# Altium integrated library Dallas Logic Delay Line.IntLib: 454 symbols (part 1 of 7)
Pins are listed as number, name and electrical type; pins without a type are passive.

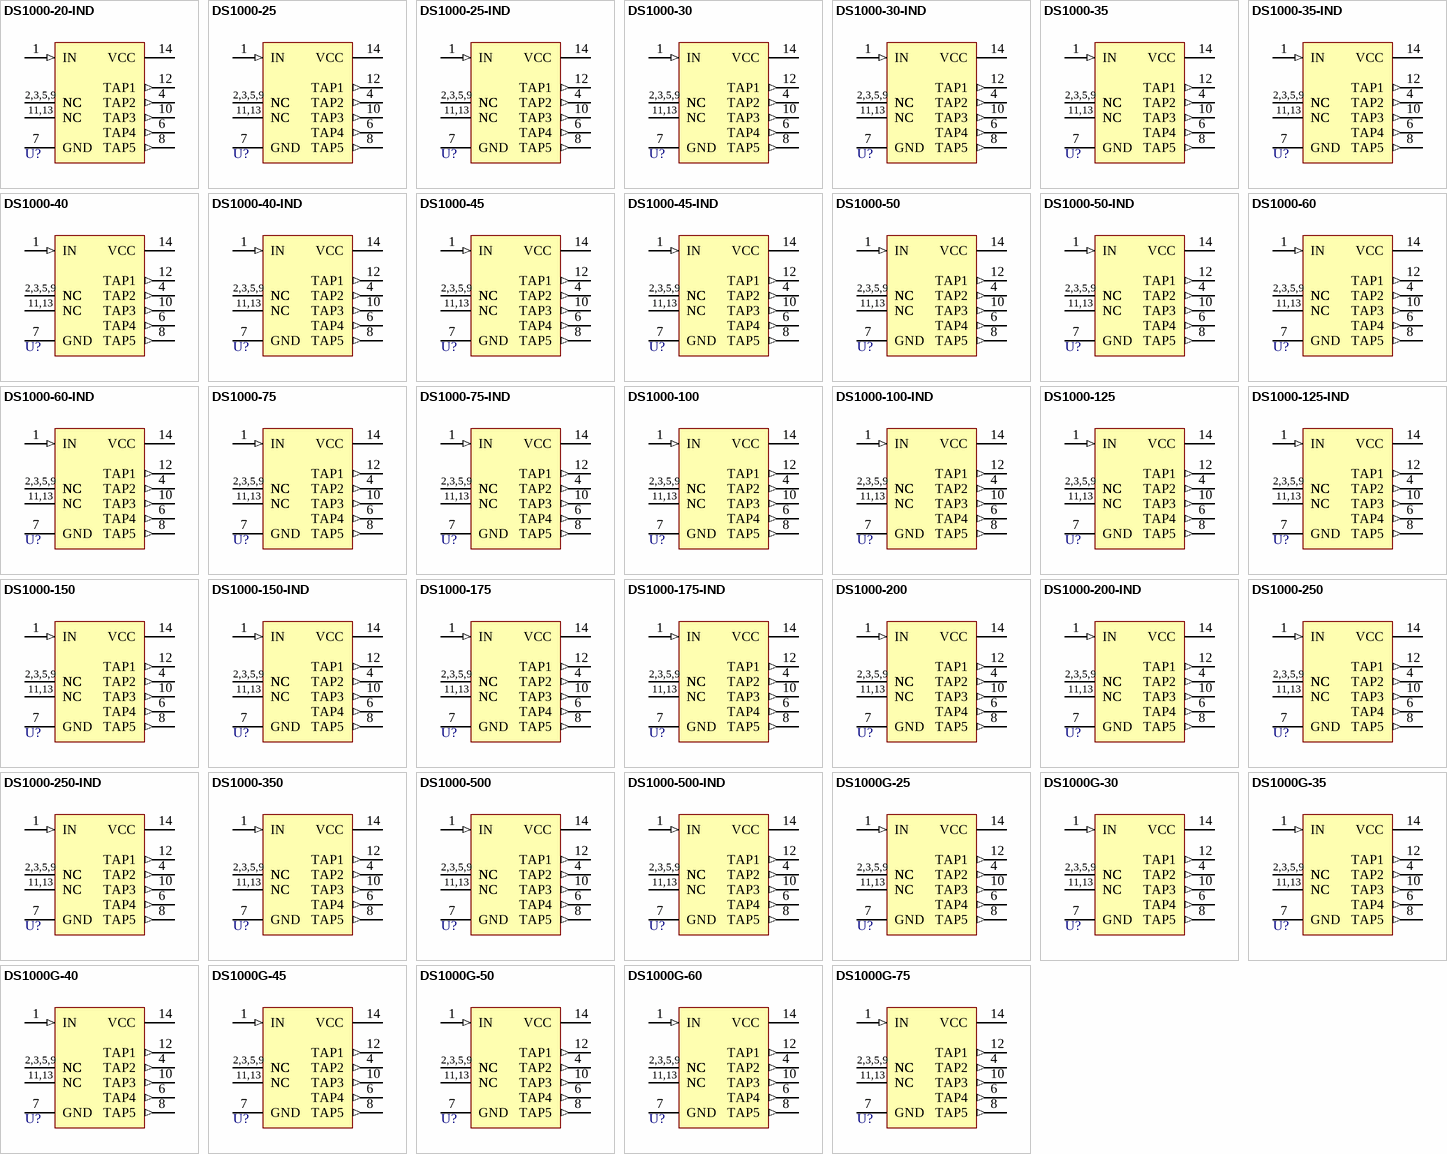
[diagram p0: symbols DS1000-20-IND to DS1000G-75]

## DS1000-20-IND
designator U?
5-Tap Silicon Delay Line; PackageDocument: 1999; Note: Pin numbers 2, 3, 5, 9, 11 and 13 are Not Connected (NC); ComponentAvailability: Obsolete; Published: 13-Oct-2000; LatestRevisionDate: 06-Jun-2005; LatestRevisionNote: Stylized 3D Model Added.; DatasheetDocument: 17-Feb-1998; PackageReference: DIP14; Publisher: Altium Limited; ComponentLink1Description: Manufacturer Link; ComponentLink1URL: http://www.maxim-ic.com/
footprint DIP14 (DIP; 14 Leads; Row Spacing 7.62 mm; Pitch 2.54 mm)
3D model DIP14 (DIP; 14 Leads; Row Spacing 7.62 mm; Pitch 2.54 mm)
pins: 1 IN (in), 2 NC, 3 NC, 4 TAP2 (out), 5 NC, 6 TAP4 (out), 7 GND (power), 8 TAP5 (out), 9 NC, 10 TAP3 (out), 11 NC, 12 TAP1 (out), 13 NC, 14 VCC (power)
text: 2,3,5,9; 11,13

## DS1000-25
designator U?
5-Tap Silicon Delay Line; PackageDocument: 1999; Note: Pin numbers 2, 3, 5, 9, 11 and 13 are Not Connected (NC); ComponentAvailability: Obsolete; Published: 13-Oct-2000; LatestRevisionDate: 06-Jun-2005; LatestRevisionNote: Stylized 3D Model Added.; DatasheetDocument: 17-Feb-1998; PackageReference: DIP14; Publisher: Altium Limited; ComponentLink1Description: Manufacturer Link; ComponentLink1URL: http://www.maxim-ic.com/
footprint DIP14 (DIP; 14 Leads; Row Spacing 7.62 mm; Pitch 2.54 mm)
3D model DIP14 (DIP; 14 Leads; Row Spacing 7.62 mm; Pitch 2.54 mm)
pins: 1 IN (in), 2 NC, 3 NC, 4 TAP2 (out), 5 NC, 6 TAP4 (out), 7 GND (power), 8 TAP5 (out), 9 NC, 10 TAP3 (out), 11 NC, 12 TAP1 (out), 13 NC, 14 VCC (power)
text: 2,3,5,9; 11,13

## DS1000-25-IND
designator U?
5-Tap Silicon Delay Line; PackageDocument: 1999; Note: Pin numbers 2, 3, 5, 9, 11 and 13 are Not Connected (NC); ComponentAvailability: Obsolete; Published: 13-Oct-2000; LatestRevisionDate: 06-Jun-2005; LatestRevisionNote: Stylized 3D Model Added.; DatasheetDocument: 17-Feb-1998; PackageReference: DIP14; Publisher: Altium Limited; ComponentLink1Description: Manufacturer Link; ComponentLink1URL: http://www.maxim-ic.com/
footprint DIP14 (DIP; 14 Leads; Row Spacing 7.62 mm; Pitch 2.54 mm)
3D model DIP14 (DIP; 14 Leads; Row Spacing 7.62 mm; Pitch 2.54 mm)
pins: 1 IN (in), 2 NC, 3 NC, 4 TAP2 (out), 5 NC, 6 TAP4 (out), 7 GND (power), 8 TAP5 (out), 9 NC, 10 TAP3 (out), 11 NC, 12 TAP1 (out), 13 NC, 14 VCC (power)
text: 2,3,5,9; 11,13

## DS1000-30
designator U?
5-Tap Silicon Delay Line; PackageDocument: 1999; Note: Pin numbers 2, 3, 5, 9, 11 and 13 are Not Connected (NC); ComponentAvailability: Obsolete; Published: 13-Oct-2000; LatestRevisionDate: 06-Jun-2005; LatestRevisionNote: Stylized 3D Model Added.; DatasheetDocument: 17-Feb-1998; PackageReference: DIP14; Publisher: Altium Limited; ComponentLink1Description: Manufacturer Link; ComponentLink1URL: http://www.maxim-ic.com/
footprint DIP14 (DIP; 14 Leads; Row Spacing 7.62 mm; Pitch 2.54 mm)
3D model DIP14 (DIP; 14 Leads; Row Spacing 7.62 mm; Pitch 2.54 mm)
pins: 1 IN (in), 2 NC, 3 NC, 4 TAP2 (out), 5 NC, 6 TAP4 (out), 7 GND (power), 8 TAP5 (out), 9 NC, 10 TAP3 (out), 11 NC, 12 TAP1 (out), 13 NC, 14 VCC (power)
text: 2,3,5,9; 11,13

## DS1000-30-IND
designator U?
5-Tap Silicon Delay Line; PackageDocument: 1999; Note: Pin numbers 2, 3, 5, 9, 11 and 13 are Not Connected (NC); ComponentAvailability: Obsolete; Published: 13-Oct-2000; LatestRevisionDate: 06-Jun-2005; LatestRevisionNote: Stylized 3D Model Added.; DatasheetDocument: 17-Feb-1998; PackageReference: DIP14; Publisher: Altium Limited; ComponentLink1Description: Manufacturer Link; ComponentLink1URL: http://www.maxim-ic.com/
footprint DIP14 (DIP; 14 Leads; Row Spacing 7.62 mm; Pitch 2.54 mm)
3D model DIP14 (DIP; 14 Leads; Row Spacing 7.62 mm; Pitch 2.54 mm)
pins: 1 IN (in), 2 NC, 3 NC, 4 TAP2 (out), 5 NC, 6 TAP4 (out), 7 GND (power), 8 TAP5 (out), 9 NC, 10 TAP3 (out), 11 NC, 12 TAP1 (out), 13 NC, 14 VCC (power)
text: 2,3,5,9; 11,13

## DS1000-35
designator U?
5-Tap Silicon Delay Line; PackageDocument: 1999; Note: Pin numbers 2, 3, 5, 9, 11 and 13 are Not Connected (NC); ComponentAvailability: Obsolete; Published: 13-Oct-2000; LatestRevisionDate: 06-Jun-2005; LatestRevisionNote: Stylized 3D Model Added.; DatasheetDocument: 17-Feb-1998; PackageReference: DIP14; Publisher: Altium Limited; ComponentLink1Description: Manufacturer Link; ComponentLink1URL: http://www.maxim-ic.com/
footprint DIP14 (DIP; 14 Leads; Row Spacing 7.62 mm; Pitch 2.54 mm)
3D model DIP14 (DIP; 14 Leads; Row Spacing 7.62 mm; Pitch 2.54 mm)
pins: 1 IN (in), 2 NC, 3 NC, 4 TAP2 (out), 5 NC, 6 TAP4 (out), 7 GND (power), 8 TAP5 (out), 9 NC, 10 TAP3 (out), 11 NC, 12 TAP1 (out), 13 NC, 14 VCC (power)
text: 2,3,5,9; 11,13

## DS1000-35-IND
designator U?
5-Tap Silicon Delay Line; PackageDocument: 1999; Note: Pin numbers 2, 3, 5, 9, 11 and 13 are Not Connected (NC); ComponentAvailability: Obsolete; Published: 13-Oct-2000; LatestRevisionDate: 06-Jun-2005; LatestRevisionNote: Stylized 3D Model Added.; DatasheetDocument: 17-Feb-1998; PackageReference: DIP14; Publisher: Altium Limited; ComponentLink1Description: Manufacturer Link; ComponentLink1URL: http://www.maxim-ic.com/
footprint DIP14 (DIP; 14 Leads; Row Spacing 7.62 mm; Pitch 2.54 mm)
3D model DIP14 (DIP; 14 Leads; Row Spacing 7.62 mm; Pitch 2.54 mm)
pins: 1 IN (in), 2 NC, 3 NC, 4 TAP2 (out), 5 NC, 6 TAP4 (out), 7 GND (power), 8 TAP5 (out), 9 NC, 10 TAP3 (out), 11 NC, 12 TAP1 (out), 13 NC, 14 VCC (power)
text: 2,3,5,9; 11,13

## DS1000-40
designator U?
5-Tap Silicon Delay Line; PackageDocument: 1999; Note: Pin numbers 2, 3, 5, 9, 11 and 13 are Not Connected (NC); ComponentAvailability: Obsolete; Published: 13-Oct-2000; LatestRevisionDate: 06-Jun-2005; LatestRevisionNote: Stylized 3D Model Added.; DatasheetDocument: 17-Feb-1998; PackageReference: DIP14; Publisher: Altium Limited; ComponentLink1Description: Manufacturer Link; ComponentLink1URL: http://www.maxim-ic.com/
footprint DIP14 (DIP; 14 Leads; Row Spacing 7.62 mm; Pitch 2.54 mm)
3D model DIP14 (DIP; 14 Leads; Row Spacing 7.62 mm; Pitch 2.54 mm)
pins: 1 IN (in), 2 NC, 3 NC, 4 TAP2 (out), 5 NC, 6 TAP4 (out), 7 GND (power), 8 TAP5 (out), 9 NC, 10 TAP3 (out), 11 NC, 12 TAP1 (out), 13 NC, 14 VCC (power)
text: 2,3,5,9; 11,13

## DS1000-40-IND
designator U?
5-Tap Silicon Delay Line; PackageDocument: 1999; Note: Pin numbers 2, 3, 5, 9, 11 and 13 are Not Connected (NC); ComponentAvailability: Obsolete; Published: 13-Oct-2000; LatestRevisionDate: 06-Jun-2005; LatestRevisionNote: Stylized 3D Model Added.; DatasheetDocument: 17-Feb-1998; PackageReference: DIP14; Publisher: Altium Limited; ComponentLink1Description: Manufacturer Link; ComponentLink1URL: http://www.maxim-ic.com/
footprint DIP14 (DIP; 14 Leads; Row Spacing 7.62 mm; Pitch 2.54 mm)
3D model DIP14 (DIP; 14 Leads; Row Spacing 7.62 mm; Pitch 2.54 mm)
pins: 1 IN (in), 2 NC, 3 NC, 4 TAP2 (out), 5 NC, 6 TAP4 (out), 7 GND (power), 8 TAP5 (out), 9 NC, 10 TAP3 (out), 11 NC, 12 TAP1 (out), 13 NC, 14 VCC (power)
text: 2,3,5,9; 11,13

## DS1000-45
designator U?
5-Tap Silicon Delay Line; PackageDocument: 1999; Note: Pin numbers 2, 3, 5, 9, 11 and 13 are Not Connected (NC); ComponentAvailability: Obsolete; Published: 13-Oct-2000; LatestRevisionDate: 06-Jun-2005; LatestRevisionNote: Stylized 3D Model Added.; DatasheetDocument: 17-Feb-1998; PackageReference: DIP14; Publisher: Altium Limited; ComponentLink1Description: Manufacturer Link; ComponentLink1URL: http://www.maxim-ic.com/
footprint DIP14 (DIP; 14 Leads; Row Spacing 7.62 mm; Pitch 2.54 mm)
3D model DIP14 (DIP; 14 Leads; Row Spacing 7.62 mm; Pitch 2.54 mm)
pins: 1 IN (in), 2 NC, 3 NC, 4 TAP2 (out), 5 NC, 6 TAP4 (out), 7 GND (power), 8 TAP5 (out), 9 NC, 10 TAP3 (out), 11 NC, 12 TAP1 (out), 13 NC, 14 VCC (power)
text: 2,3,5,9; 11,13

## DS1000-45-IND
designator U?
5-Tap Silicon Delay Line; PackageDocument: 1999; Note: Pin numbers 2, 3, 5, 9, 11 and 13 are Not Connected (NC); ComponentAvailability: Obsolete; Published: 13-Oct-2000; LatestRevisionDate: 06-Jun-2005; LatestRevisionNote: Stylized 3D Model Added.; DatasheetDocument: 17-Feb-1998; PackageReference: DIP14; Publisher: Altium Limited; ComponentLink1Description: Manufacturer Link; ComponentLink1URL: http://www.maxim-ic.com/
footprint DIP14 (DIP; 14 Leads; Row Spacing 7.62 mm; Pitch 2.54 mm)
3D model DIP14 (DIP; 14 Leads; Row Spacing 7.62 mm; Pitch 2.54 mm)
pins: 1 IN (in), 2 NC, 3 NC, 4 TAP2 (out), 5 NC, 6 TAP4 (out), 7 GND (power), 8 TAP5 (out), 9 NC, 10 TAP3 (out), 11 NC, 12 TAP1 (out), 13 NC, 14 VCC (power)
text: 2,3,5,9; 11,13

## DS1000-50
designator U?
5-Tap Silicon Delay Line; PackageDocument: 1999; Note: Pin numbers 2, 3, 5, 9, 11 and 13 are Not Connected (NC); ComponentAvailability: Obsolete; Published: 13-Oct-2000; LatestRevisionDate: 06-Jun-2005; LatestRevisionNote: Stylized 3D Model Added.; DatasheetDocument: 17-Feb-1998; PackageReference: DIP14; Publisher: Altium Limited; ComponentLink1Description: Manufacturer Link; ComponentLink1URL: http://www.maxim-ic.com/
footprint DIP14 (DIP; 14 Leads; Row Spacing 7.62 mm; Pitch 2.54 mm)
3D model DIP14 (DIP; 14 Leads; Row Spacing 7.62 mm; Pitch 2.54 mm)
pins: 1 IN (in), 2 NC, 3 NC, 4 TAP2 (out), 5 NC, 6 TAP4 (out), 7 GND (power), 8 TAP5 (out), 9 NC, 10 TAP3 (out), 11 NC, 12 TAP1 (out), 13 NC, 14 VCC (power)
text: 2,3,5,9; 11,13

## DS1000-50-IND
designator U?
5-Tap Silicon Delay Line; PackageDocument: 1999; Note: Pin numbers 2, 3, 5, 9, 11 and 13 are Not Connected (NC); ComponentAvailability: Obsolete; Published: 13-Oct-2000; LatestRevisionDate: 06-Jun-2005; LatestRevisionNote: Stylized 3D Model Added.; DatasheetDocument: 17-Feb-1998; PackageReference: DIP14; Publisher: Altium Limited; ComponentLink1Description: Manufacturer Link; ComponentLink1URL: http://www.maxim-ic.com/
footprint DIP14 (DIP; 14 Leads; Row Spacing 7.62 mm; Pitch 2.54 mm)
3D model DIP14 (DIP; 14 Leads; Row Spacing 7.62 mm; Pitch 2.54 mm)
pins: 1 IN (in), 2 NC, 3 NC, 4 TAP2 (out), 5 NC, 6 TAP4 (out), 7 GND (power), 8 TAP5 (out), 9 NC, 10 TAP3 (out), 11 NC, 12 TAP1 (out), 13 NC, 14 VCC (power)
text: 2,3,5,9; 11,13

## DS1000-60
designator U?
5-Tap Silicon Delay Line; PackageDocument: 1999; Note: Pin numbers 2, 3, 5, 9, 11 and 13 are Not Connected (NC); ComponentAvailability: Obsolete; Published: 13-Oct-2000; LatestRevisionDate: 06-Jun-2005; LatestRevisionNote: Stylized 3D Model Added.; DatasheetDocument: 17-Feb-1998; PackageReference: DIP14; Publisher: Altium Limited; ComponentLink1Description: Manufacturer Link; ComponentLink1URL: http://www.maxim-ic.com/
footprint DIP14 (DIP; 14 Leads; Row Spacing 7.62 mm; Pitch 2.54 mm)
3D model DIP14 (DIP; 14 Leads; Row Spacing 7.62 mm; Pitch 2.54 mm)
pins: 1 IN (in), 2 NC, 3 NC, 4 TAP2 (out), 5 NC, 6 TAP4 (out), 7 GND (power), 8 TAP5 (out), 9 NC, 10 TAP3 (out), 11 NC, 12 TAP1 (out), 13 NC, 14 VCC (power)
text: 2,3,5,9; 11,13

## DS1000-60-IND
designator U?
5-Tap Silicon Delay Line; PackageDocument: 1999; Note: Pin numbers 2, 3, 5, 9, 11 and 13 are Not Connected (NC); ComponentAvailability: Obsolete; Published: 13-Oct-2000; LatestRevisionDate: 06-Jun-2005; LatestRevisionNote: Stylized 3D Model Added.; DatasheetDocument: 17-Feb-1998; PackageReference: DIP14; Publisher: Altium Limited; ComponentLink1Description: Manufacturer Link; ComponentLink1URL: http://www.maxim-ic.com/
footprint DIP14 (DIP; 14 Leads; Row Spacing 7.62 mm; Pitch 2.54 mm)
3D model DIP14 (DIP; 14 Leads; Row Spacing 7.62 mm; Pitch 2.54 mm)
pins: 1 IN (in), 2 NC, 3 NC, 4 TAP2 (out), 5 NC, 6 TAP4 (out), 7 GND (power), 8 TAP5 (out), 9 NC, 10 TAP3 (out), 11 NC, 12 TAP1 (out), 13 NC, 14 VCC (power)
text: 2,3,5,9; 11,13

## DS1000-75
designator U?
5-Tap Silicon Delay Line; PackageDocument: 1999; Note: Pin numbers 2, 3, 5, 9, 11 and 13 are Not Connected (NC); ComponentAvailability: Obsolete; Published: 13-Oct-2000; LatestRevisionDate: 06-Jun-2005; LatestRevisionNote: Stylized 3D Model Added.; DatasheetDocument: 17-Feb-1998; PackageReference: DIP14; Publisher: Altium Limited; ComponentLink1Description: Manufacturer Link; ComponentLink1URL: http://www.maxim-ic.com/
footprint DIP14 (DIP; 14 Leads; Row Spacing 7.62 mm; Pitch 2.54 mm)
3D model DIP14 (DIP; 14 Leads; Row Spacing 7.62 mm; Pitch 2.54 mm)
pins: 1 IN (in), 2 NC, 3 NC, 4 TAP2 (out), 5 NC, 6 TAP4 (out), 7 GND (power), 8 TAP5 (out), 9 NC, 10 TAP3 (out), 11 NC, 12 TAP1 (out), 13 NC, 14 VCC (power)
text: 2,3,5,9; 11,13

## DS1000-75-IND
designator U?
5-Tap Silicon Delay Line; PackageDocument: 1999; Note: Pin numbers 2, 3, 5, 9, 11 and 13 are Not Connected (NC); ComponentAvailability: Obsolete; Published: 13-Oct-2000; LatestRevisionDate: 06-Jun-2005; LatestRevisionNote: Stylized 3D Model Added.; DatasheetDocument: 17-Feb-1998; PackageReference: DIP14; Publisher: Altium Limited; ComponentLink1Description: Manufacturer Link; ComponentLink1URL: http://www.maxim-ic.com/
footprint DIP14 (DIP; 14 Leads; Row Spacing 7.62 mm; Pitch 2.54 mm)
3D model DIP14 (DIP; 14 Leads; Row Spacing 7.62 mm; Pitch 2.54 mm)
pins: 1 IN (in), 2 NC, 3 NC, 4 TAP2 (out), 5 NC, 6 TAP4 (out), 7 GND (power), 8 TAP5 (out), 9 NC, 10 TAP3 (out), 11 NC, 12 TAP1 (out), 13 NC, 14 VCC (power)
text: 2,3,5,9; 11,13

## DS1000-100
designator U?
5-Tap Silicon Delay Line; PackageDocument: 1999; Note: Pin numbers 2, 3, 5, 9, 11 and 13 are Not Connected (NC); ComponentAvailability: Obsolete; Published: 13-Oct-2000; LatestRevisionDate: 06-Jun-2005; LatestRevisionNote: Stylized 3D Model Added.; DatasheetDocument: 17-Feb-1998; PackageReference: DIP14; Publisher: Altium Limited; ComponentLink1Description: Manufacturer Link; ComponentLink1URL: http://www.maxim-ic.com/
footprint DIP14 (DIP; 14 Leads; Row Spacing 7.62 mm; Pitch 2.54 mm)
3D model DIP14 (DIP; 14 Leads; Row Spacing 7.62 mm; Pitch 2.54 mm)
pins: 1 IN (in), 2 NC, 3 NC, 4 TAP2 (out), 5 NC, 6 TAP4 (out), 7 GND (power), 8 TAP5 (out), 9 NC, 10 TAP3 (out), 11 NC, 12 TAP1 (out), 13 NC, 14 VCC (power)
text: 2,3,5,9; 11,13

## DS1000-100-IND
designator U?
5-Tap Silicon Delay Line; PackageDocument: 1999; Note: Pin numbers 2, 3, 5, 9, 11 and 13 are Not Connected (NC); ComponentAvailability: Obsolete; Published: 13-Oct-2000; LatestRevisionDate: 06-Jun-2005; LatestRevisionNote: Stylized 3D Model Added.; DatasheetDocument: 17-Feb-1998; PackageReference: DIP14; Publisher: Altium Limited; ComponentLink1Description: Manufacturer Link; ComponentLink1URL: http://www.maxim-ic.com/
footprint DIP14 (DIP; 14 Leads; Row Spacing 7.62 mm; Pitch 2.54 mm)
3D model DIP14 (DIP; 14 Leads; Row Spacing 7.62 mm; Pitch 2.54 mm)
pins: 1 IN (in), 2 NC, 3 NC, 4 TAP2 (out), 5 NC, 6 TAP4 (out), 7 GND (power), 8 TAP5 (out), 9 NC, 10 TAP3 (out), 11 NC, 12 TAP1 (out), 13 NC, 14 VCC (power)
text: 2,3,5,9; 11,13

## DS1000-125
designator U?
5-Tap Silicon Delay Line; PackageDocument: 1999; Note: Pin numbers 2, 3, 5, 9, 11 and 13 are Not Connected (NC); ComponentAvailability: Obsolete; Published: 13-Oct-2000; LatestRevisionDate: 06-Jun-2005; LatestRevisionNote: Stylized 3D Model Added.; DatasheetDocument: 17-Feb-1998; PackageReference: DIP14; Publisher: Altium Limited; ComponentLink1Description: Manufacturer Link; ComponentLink1URL: http://www.maxim-ic.com/
footprint DIP14 (DIP; 14 Leads; Row Spacing 7.62 mm; Pitch 2.54 mm)
3D model DIP14 (DIP; 14 Leads; Row Spacing 7.62 mm; Pitch 2.54 mm)
pins: 1 IN (in), 2 NC, 3 NC, 4 TAP2 (out), 5 NC, 6 TAP4 (out), 7 GND (power), 8 TAP5 (out), 9 NC, 10 TAP3 (out), 11 NC, 12 TAP1 (out), 13 NC, 14 VCC (power)
text: 2,3,5,9; 11,13

## DS1000-125-IND
designator U?
5-Tap Silicon Delay Line; PackageDocument: 1999; Note: Pin numbers 2, 3, 5, 9, 11 and 13 are Not Connected (NC); ComponentAvailability: Obsolete; Published: 13-Oct-2000; LatestRevisionDate: 06-Jun-2005; LatestRevisionNote: Stylized 3D Model Added.; DatasheetDocument: 17-Feb-1998; PackageReference: DIP14; Publisher: Altium Limited; ComponentLink1Description: Manufacturer Link; ComponentLink1URL: http://www.maxim-ic.com/
footprint DIP14 (DIP; 14 Leads; Row Spacing 7.62 mm; Pitch 2.54 mm)
3D model DIP14 (DIP; 14 Leads; Row Spacing 7.62 mm; Pitch 2.54 mm)
pins: 1 IN (in), 2 NC, 3 NC, 4 TAP2 (out), 5 NC, 6 TAP4 (out), 7 GND (power), 8 TAP5 (out), 9 NC, 10 TAP3 (out), 11 NC, 12 TAP1 (out), 13 NC, 14 VCC (power)
text: 2,3,5,9; 11,13

## DS1000-150
designator U?
5-Tap Silicon Delay Line; PackageDocument: 1999; Note: Pin numbers 2, 3, 5, 9, 11 and 13 are Not Connected (NC); ComponentAvailability: Obsolete; Published: 13-Oct-2000; LatestRevisionDate: 06-Jun-2005; LatestRevisionNote: Stylized 3D Model Added.; DatasheetDocument: 17-Feb-1998; PackageReference: DIP14; Publisher: Altium Limited; ComponentLink1Description: Manufacturer Link; ComponentLink1URL: http://www.maxim-ic.com/
footprint DIP14 (DIP; 14 Leads; Row Spacing 7.62 mm; Pitch 2.54 mm)
3D model DIP14 (DIP; 14 Leads; Row Spacing 7.62 mm; Pitch 2.54 mm)
pins: 1 IN (in), 2 NC, 3 NC, 4 TAP2 (out), 5 NC, 6 TAP4 (out), 7 GND (power), 8 TAP5 (out), 9 NC, 10 TAP3 (out), 11 NC, 12 TAP1 (out), 13 NC, 14 VCC (power)
text: 2,3,5,9; 11,13

## DS1000-150-IND
designator U?
5-Tap Silicon Delay Line; PackageDocument: 1999; Note: Pin numbers 2, 3, 5, 9, 11 and 13 are Not Connected (NC); ComponentAvailability: Obsolete; Published: 13-Oct-2000; LatestRevisionDate: 06-Jun-2005; LatestRevisionNote: Stylized 3D Model Added.; DatasheetDocument: 17-Feb-1998; PackageReference: DIP14; Publisher: Altium Limited; ComponentLink1Description: Manufacturer Link; ComponentLink1URL: http://www.maxim-ic.com/
footprint DIP14 (DIP; 14 Leads; Row Spacing 7.62 mm; Pitch 2.54 mm)
3D model DIP14 (DIP; 14 Leads; Row Spacing 7.62 mm; Pitch 2.54 mm)
pins: 1 IN (in), 2 NC, 3 NC, 4 TAP2 (out), 5 NC, 6 TAP4 (out), 7 GND (power), 8 TAP5 (out), 9 NC, 10 TAP3 (out), 11 NC, 12 TAP1 (out), 13 NC, 14 VCC (power)
text: 2,3,5,9; 11,13

## DS1000-175
designator U?
5-Tap Silicon Delay Line; PackageDocument: 1999; Note: Pin numbers 2, 3, 5, 9, 11 and 13 are Not Connected (NC); ComponentAvailability: Obsolete; Published: 13-Oct-2000; LatestRevisionDate: 06-Jun-2005; LatestRevisionNote: Stylized 3D Model Added.; DatasheetDocument: 17-Feb-1998; PackageReference: DIP14; Publisher: Altium Limited; ComponentLink1Description: Manufacturer Link; ComponentLink1URL: http://www.maxim-ic.com/
footprint DIP14 (DIP; 14 Leads; Row Spacing 7.62 mm; Pitch 2.54 mm)
3D model DIP14 (DIP; 14 Leads; Row Spacing 7.62 mm; Pitch 2.54 mm)
pins: 1 IN (in), 2 NC, 3 NC, 4 TAP2 (out), 5 NC, 6 TAP4 (out), 7 GND (power), 8 TAP5 (out), 9 NC, 10 TAP3 (out), 11 NC, 12 TAP1 (out), 13 NC, 14 VCC (power)
text: 2,3,5,9; 11,13

## DS1000-175-IND
designator U?
5-Tap Silicon Delay Line; PackageDocument: 1999; Note: Pin numbers 2, 3, 5, 9, 11 and 13 are Not Connected (NC); ComponentAvailability: Obsolete; Published: 13-Oct-2000; LatestRevisionDate: 06-Jun-2005; LatestRevisionNote: Stylized 3D Model Added.; DatasheetDocument: 17-Feb-1998; PackageReference: DIP14; Publisher: Altium Limited; ComponentLink1Description: Manufacturer Link; ComponentLink1URL: http://www.maxim-ic.com/
footprint DIP14 (DIP; 14 Leads; Row Spacing 7.62 mm; Pitch 2.54 mm)
3D model DIP14 (DIP; 14 Leads; Row Spacing 7.62 mm; Pitch 2.54 mm)
pins: 1 IN (in), 2 NC, 3 NC, 4 TAP2 (out), 5 NC, 6 TAP4 (out), 7 GND (power), 8 TAP5 (out), 9 NC, 10 TAP3 (out), 11 NC, 12 TAP1 (out), 13 NC, 14 VCC (power)
text: 2,3,5,9; 11,13

## DS1000-200
designator U?
5-Tap Silicon Delay Line; PackageDocument: 1999; Note: Pin numbers 2, 3, 5, 9, 11 and 13 are Not Connected (NC); ComponentAvailability: Obsolete; Published: 13-Oct-2000; LatestRevisionDate: 06-Jun-2005; LatestRevisionNote: Stylized 3D Model Added.; DatasheetDocument: 17-Feb-1998; PackageReference: DIP14; Publisher: Altium Limited; ComponentLink1Description: Manufacturer Link; ComponentLink1URL: http://www.maxim-ic.com/
footprint DIP14 (DIP; 14 Leads; Row Spacing 7.62 mm; Pitch 2.54 mm)
3D model DIP14 (DIP; 14 Leads; Row Spacing 7.62 mm; Pitch 2.54 mm)
pins: 1 IN (in), 2 NC, 3 NC, 4 TAP2 (out), 5 NC, 6 TAP4 (out), 7 GND (power), 8 TAP5 (out), 9 NC, 10 TAP3 (out), 11 NC, 12 TAP1 (out), 13 NC, 14 VCC (power)
text: 2,3,5,9; 11,13

## DS1000-200-IND
designator U?
5-Tap Silicon Delay Line; PackageDocument: 1999; Note: Pin numbers 2, 3, 5, 9, 11 and 13 are Not Connected (NC); ComponentAvailability: Obsolete; Published: 13-Oct-2000; LatestRevisionDate: 06-Jun-2005; LatestRevisionNote: Stylized 3D Model Added.; DatasheetDocument: 17-Feb-1998; PackageReference: DIP14; Publisher: Altium Limited; ComponentLink1Description: Manufacturer Link; ComponentLink1URL: http://www.maxim-ic.com/
footprint DIP14 (DIP; 14 Leads; Row Spacing 7.62 mm; Pitch 2.54 mm)
3D model DIP14 (DIP; 14 Leads; Row Spacing 7.62 mm; Pitch 2.54 mm)
pins: 1 IN (in), 2 NC, 3 NC, 4 TAP2 (out), 5 NC, 6 TAP4 (out), 7 GND (power), 8 TAP5 (out), 9 NC, 10 TAP3 (out), 11 NC, 12 TAP1 (out), 13 NC, 14 VCC (power)
text: 2,3,5,9; 11,13

## DS1000-250
designator U?
5-Tap Silicon Delay Line; PackageDocument: 1999; Note: Pin numbers 2, 3, 5, 9, 11 and 13 are Not Connected (NC); ComponentAvailability: Obsolete; Published: 13-Oct-2000; LatestRevisionDate: 06-Jun-2005; LatestRevisionNote: Stylized 3D Model Added.; DatasheetDocument: 17-Feb-1998; PackageReference: DIP14; Publisher: Altium Limited; ComponentLink1Description: Manufacturer Link; ComponentLink1URL: http://www.maxim-ic.com/
footprint DIP14 (DIP; 14 Leads; Row Spacing 7.62 mm; Pitch 2.54 mm)
3D model DIP14 (DIP; 14 Leads; Row Spacing 7.62 mm; Pitch 2.54 mm)
pins: 1 IN (in), 2 NC, 3 NC, 4 TAP2 (out), 5 NC, 6 TAP4 (out), 7 GND (power), 8 TAP5 (out), 9 NC, 10 TAP3 (out), 11 NC, 12 TAP1 (out), 13 NC, 14 VCC (power)
text: 2,3,5,9; 11,13

## DS1000-250-IND
designator U?
5-Tap Silicon Delay Line; PackageDocument: 1999; Note: Pin numbers 2, 3, 5, 9, 11 and 13 are Not Connected (NC); ComponentAvailability: Obsolete; Published: 13-Oct-2000; LatestRevisionDate: 06-Jun-2005; LatestRevisionNote: Stylized 3D Model Added.; DatasheetDocument: 17-Feb-1998; PackageReference: DIP14; Publisher: Altium Limited; ComponentLink1Description: Manufacturer Link; ComponentLink1URL: http://www.maxim-ic.com/
footprint DIP14 (DIP; 14 Leads; Row Spacing 7.62 mm; Pitch 2.54 mm)
3D model DIP14 (DIP; 14 Leads; Row Spacing 7.62 mm; Pitch 2.54 mm)
pins: 1 IN (in), 2 NC, 3 NC, 4 TAP2 (out), 5 NC, 6 TAP4 (out), 7 GND (power), 8 TAP5 (out), 9 NC, 10 TAP3 (out), 11 NC, 12 TAP1 (out), 13 NC, 14 VCC (power)
text: 2,3,5,9; 11,13

## DS1000-350
designator U?
5-Tap Silicon Delay Line; PackageDocument: 1999; Note: Pin numbers 2, 3, 5, 9, 11 and 13 are Not Connected (NC); ComponentAvailability: Obsolete; Published: 13-Oct-2000; LatestRevisionDate: 06-Jun-2005; LatestRevisionNote: Stylized 3D Model Added.; DatasheetDocument: Mar-1994; PackageReference: DIP14; Publisher: Altium Limited; ComponentLink1Description: Manufacturer Link; ComponentLink1URL: http://www.maxim-ic.com/
footprint DIP14 (DIP; 14 Leads; Row Spacing 7.62 mm; Pitch 2.54 mm)
3D model DIP14 (DIP; 14 Leads; Row Spacing 7.62 mm; Pitch 2.54 mm)
pins: 1 IN (in), 2 NC, 3 NC, 4 TAP2 (out), 5 NC, 6 TAP4 (out), 7 GND (power), 8 TAP5 (out), 9 NC, 10 TAP3 (out), 11 NC, 12 TAP1 (out), 13 NC, 14 VCC (power)
text: 2,3,5,9; 11,13

## DS1000-500
designator U?
5-Tap Silicon Delay Line; PackageDocument: 1999; Note: Pin numbers 2, 3, 5, 9, 11 and 13 are Not Connected (NC); ComponentAvailability: Obsolete; Published: 13-Oct-2000; LatestRevisionDate: 06-Jun-2005; LatestRevisionNote: Stylized 3D Model Added.; DatasheetDocument: 17-Feb-1998; PackageReference: DIP14; Publisher: Altium Limited; ComponentLink1Description: Manufacturer Link; ComponentLink1URL: http://www.maxim-ic.com/
footprint DIP14 (DIP; 14 Leads; Row Spacing 7.62 mm; Pitch 2.54 mm)
3D model DIP14 (DIP; 14 Leads; Row Spacing 7.62 mm; Pitch 2.54 mm)
pins: 1 IN (in), 2 NC, 3 NC, 4 TAP2 (out), 5 NC, 6 TAP4 (out), 7 GND (power), 8 TAP5 (out), 9 NC, 10 TAP3 (out), 11 NC, 12 TAP1 (out), 13 NC, 14 VCC (power)
text: 2,3,5,9; 11,13

## DS1000-500-IND
designator U?
5-Tap Silicon Delay Line; PackageDocument: 1999; Note: Pin numbers 2, 3, 5, 9, 11 and 13 are Not Connected (NC); ComponentAvailability: Obsolete; Published: 13-Oct-2000; LatestRevisionDate: 06-Jun-2005; LatestRevisionNote: Stylized 3D Model Added.; DatasheetDocument: 17-Feb-1998; PackageReference: DIP14; Publisher: Altium Limited; ComponentLink1Description: Manufacturer Link; ComponentLink1URL: http://www.maxim-ic.com/
footprint DIP14 (DIP; 14 Leads; Row Spacing 7.62 mm; Pitch 2.54 mm)
3D model DIP14 (DIP; 14 Leads; Row Spacing 7.62 mm; Pitch 2.54 mm)
pins: 1 IN (in), 2 NC, 3 NC, 4 TAP2 (out), 5 NC, 6 TAP4 (out), 7 GND (power), 8 TAP5 (out), 9 NC, 10 TAP3 (out), 11 NC, 12 TAP1 (out), 13 NC, 14 VCC (power)
text: 2,3,5,9; 11,13

## DS1000G-25
designator U?
5-Tap Silicon Delay Line; Note: Pin numbers 2, 3, 5, 9, 11 and 13 are Not Connected (NC); ComponentAvailability: Obsolete; Published: 13-Oct-2000; LatestRevisionDate: 06-Jun-2005; LatestRevisionNote: Stylized 3D Model Added.; DatasheetDocument: Mar-1994; PackageDocument: Feb-1999; PackageReference: SOG14; Publisher: Altium Limited; ComponentLink1Description: Manufacturer Link; ComponentLink1URL: http://www.maxim-ic.com/
footprint SOG14 (Small Outline; 14 Leads; Body Width 6.4 mm; Pitch 2.54 mm)
3D model SOG14 (Small Outline; 14 Leads; Body Width 6.4 mm; Pitch 2.54 mm)
pins: 1 IN (in), 2 NC, 3 NC, 4 TAP2 (out), 5 NC, 6 TAP4 (out), 7 GND (power), 8 TAP5 (out), 9 NC, 10 TAP3 (out), 11 NC, 12 TAP1 (out), 13 NC, 14 VCC (power)
text: 2,3,5,9; 11,13

## DS1000G-30
designator U?
5-Tap Silicon Delay Line; Note: Pin numbers 2, 3, 5, 9, 11 and 13 are Not Connected (NC); ComponentAvailability: Obsolete; Published: 13-Oct-2000; LatestRevisionDate: 06-Jun-2005; LatestRevisionNote: Stylized 3D Model Added.; DatasheetDocument: Mar-1994; PackageDocument: Feb-1999; PackageReference: SOG14; Publisher: Altium Limited; ComponentLink1Description: Manufacturer Link; ComponentLink1URL: http://www.maxim-ic.com/
footprint SOG14 (Small Outline; 14 Leads; Body Width 6.4 mm; Pitch 2.54 mm)
3D model SOG14 (Small Outline; 14 Leads; Body Width 6.4 mm; Pitch 2.54 mm)
pins: 1 IN (in), 2 NC, 3 NC, 4 TAP2 (out), 5 NC, 6 TAP4 (out), 7 GND (power), 8 TAP5 (out), 9 NC, 10 TAP3 (out), 11 NC, 12 TAP1 (out), 13 NC, 14 VCC (power)
text: 2,3,5,9; 11,13

## DS1000G-35
designator U?
5-Tap Silicon Delay Line; Note: Pin numbers 2, 3, 5, 9, 11 and 13 are Not Connected (NC); ComponentAvailability: Obsolete; Published: 13-Oct-2000; LatestRevisionDate: 06-Jun-2005; LatestRevisionNote: Stylized 3D Model Added.; DatasheetDocument: Mar-1994; PackageDocument: Feb-1999; PackageReference: SOG14; Publisher: Altium Limited; ComponentLink1Description: Manufacturer Link; ComponentLink1URL: http://www.maxim-ic.com/
footprint SOG14 (Small Outline; 14 Leads; Body Width 6.4 mm; Pitch 2.54 mm)
3D model SOG14 (Small Outline; 14 Leads; Body Width 6.4 mm; Pitch 2.54 mm)
pins: 1 IN (in), 2 NC, 3 NC, 4 TAP2 (out), 5 NC, 6 TAP4 (out), 7 GND (power), 8 TAP5 (out), 9 NC, 10 TAP3 (out), 11 NC, 12 TAP1 (out), 13 NC, 14 VCC (power)
text: 2,3,5,9; 11,13

## DS1000G-40
designator U?
5-Tap Silicon Delay Line; Note: Pin numbers 2, 3, 5, 9, 11 and 13 are Not Connected (NC); ComponentAvailability: Obsolete; Published: 13-Oct-2000; LatestRevisionDate: 06-Jun-2005; LatestRevisionNote: Stylized 3D Model Added.; DatasheetDocument: Mar-1994; PackageDocument: Feb-1999; PackageReference: SOG14; Publisher: Altium Limited; ComponentLink1Description: Manufacturer Link; ComponentLink1URL: http://www.maxim-ic.com/
footprint SOG14 (Small Outline; 14 Leads; Body Width 6.4 mm; Pitch 2.54 mm)
3D model SOG14 (Small Outline; 14 Leads; Body Width 6.4 mm; Pitch 2.54 mm)
pins: 1 IN (in), 2 NC, 3 NC, 4 TAP2 (out), 5 NC, 6 TAP4 (out), 7 GND (power), 8 TAP5 (out), 9 NC, 10 TAP3 (out), 11 NC, 12 TAP1 (out), 13 NC, 14 VCC (power)
text: 2,3,5,9; 11,13

## DS1000G-45
designator U?
5-Tap Silicon Delay Line; Note: Pin numbers 2, 3, 5, 9, 11 and 13 are Not Connected (NC); ComponentAvailability: Obsolete; Published: 13-Oct-2000; LatestRevisionDate: 06-Jun-2005; LatestRevisionNote: Stylized 3D Model Added.; DatasheetDocument: Mar-1994; PackageDocument: Feb-1999; PackageReference: SOG14; Publisher: Altium Limited; ComponentLink1Description: Manufacturer Link; ComponentLink1URL: http://www.maxim-ic.com/
footprint SOG14 (Small Outline; 14 Leads; Body Width 6.4 mm; Pitch 2.54 mm)
3D model SOG14 (Small Outline; 14 Leads; Body Width 6.4 mm; Pitch 2.54 mm)
pins: 1 IN (in), 2 NC, 3 NC, 4 TAP2 (out), 5 NC, 6 TAP4 (out), 7 GND (power), 8 TAP5 (out), 9 NC, 10 TAP3 (out), 11 NC, 12 TAP1 (out), 13 NC, 14 VCC (power)
text: 2,3,5,9; 11,13

## DS1000G-50
designator U?
5-Tap Silicon Delay Line; Note: Pin numbers 2, 3, 5, 9, 11 and 13 are Not Connected (NC); ComponentAvailability: Obsolete; Published: 13-Oct-2000; LatestRevisionDate: 06-Jun-2005; LatestRevisionNote: Stylized 3D Model Added.; DatasheetDocument: Mar-1994; PackageDocument: Feb-1999; PackageReference: SOG14; Publisher: Altium Limited; ComponentLink1Description: Manufacturer Link; ComponentLink1URL: http://www.maxim-ic.com/
footprint SOG14 (Small Outline; 14 Leads; Body Width 6.4 mm; Pitch 2.54 mm)
3D model SOG14 (Small Outline; 14 Leads; Body Width 6.4 mm; Pitch 2.54 mm)
pins: 1 IN (in), 2 NC, 3 NC, 4 TAP2 (out), 5 NC, 6 TAP4 (out), 7 GND (power), 8 TAP5 (out), 9 NC, 10 TAP3 (out), 11 NC, 12 TAP1 (out), 13 NC, 14 VCC (power)
text: 2,3,5,9; 11,13

## DS1000G-60
designator U?
5-Tap Silicon Delay Line; Note: Pin numbers 2, 3, 5, 9, 11 and 13 are Not Connected (NC); ComponentAvailability: Obsolete; Published: 13-Oct-2000; LatestRevisionDate: 06-Jun-2005; LatestRevisionNote: Stylized 3D Model Added.; DatasheetDocument: Mar-1994; PackageDocument: Feb-1999; PackageReference: SOG14; Publisher: Altium Limited; ComponentLink1Description: Manufacturer Link; ComponentLink1URL: http://www.maxim-ic.com/
footprint SOG14 (Small Outline; 14 Leads; Body Width 6.4 mm; Pitch 2.54 mm)
3D model SOG14 (Small Outline; 14 Leads; Body Width 6.4 mm; Pitch 2.54 mm)
pins: 1 IN (in), 2 NC, 3 NC, 4 TAP2 (out), 5 NC, 6 TAP4 (out), 7 GND (power), 8 TAP5 (out), 9 NC, 10 TAP3 (out), 11 NC, 12 TAP1 (out), 13 NC, 14 VCC (power)
text: 2,3,5,9; 11,13

## DS1000G-75
designator U?
5-Tap Silicon Delay Line; Note: Pin numbers 2, 3, 5, 9, 11 and 13 are Not Connected (NC); ComponentAvailability: Obsolete; Published: 13-Oct-2000; LatestRevisionDate: 06-Jun-2005; LatestRevisionNote: Stylized 3D Model Added.; DatasheetDocument: Mar-1994; PackageDocument: Feb-1999; PackageReference: SOG14; Publisher: Altium Limited; ComponentLink1Description: Manufacturer Link; ComponentLink1URL: http://www.maxim-ic.com/
footprint SOG14 (Small Outline; 14 Leads; Body Width 6.4 mm; Pitch 2.54 mm)
3D model SOG14 (Small Outline; 14 Leads; Body Width 6.4 mm; Pitch 2.54 mm)
pins: 1 IN (in), 2 NC, 3 NC, 4 TAP2 (out), 5 NC, 6 TAP4 (out), 7 GND (power), 8 TAP5 (out), 9 NC, 10 TAP3 (out), 11 NC, 12 TAP1 (out), 13 NC, 14 VCC (power)
text: 2,3,5,9; 11,13

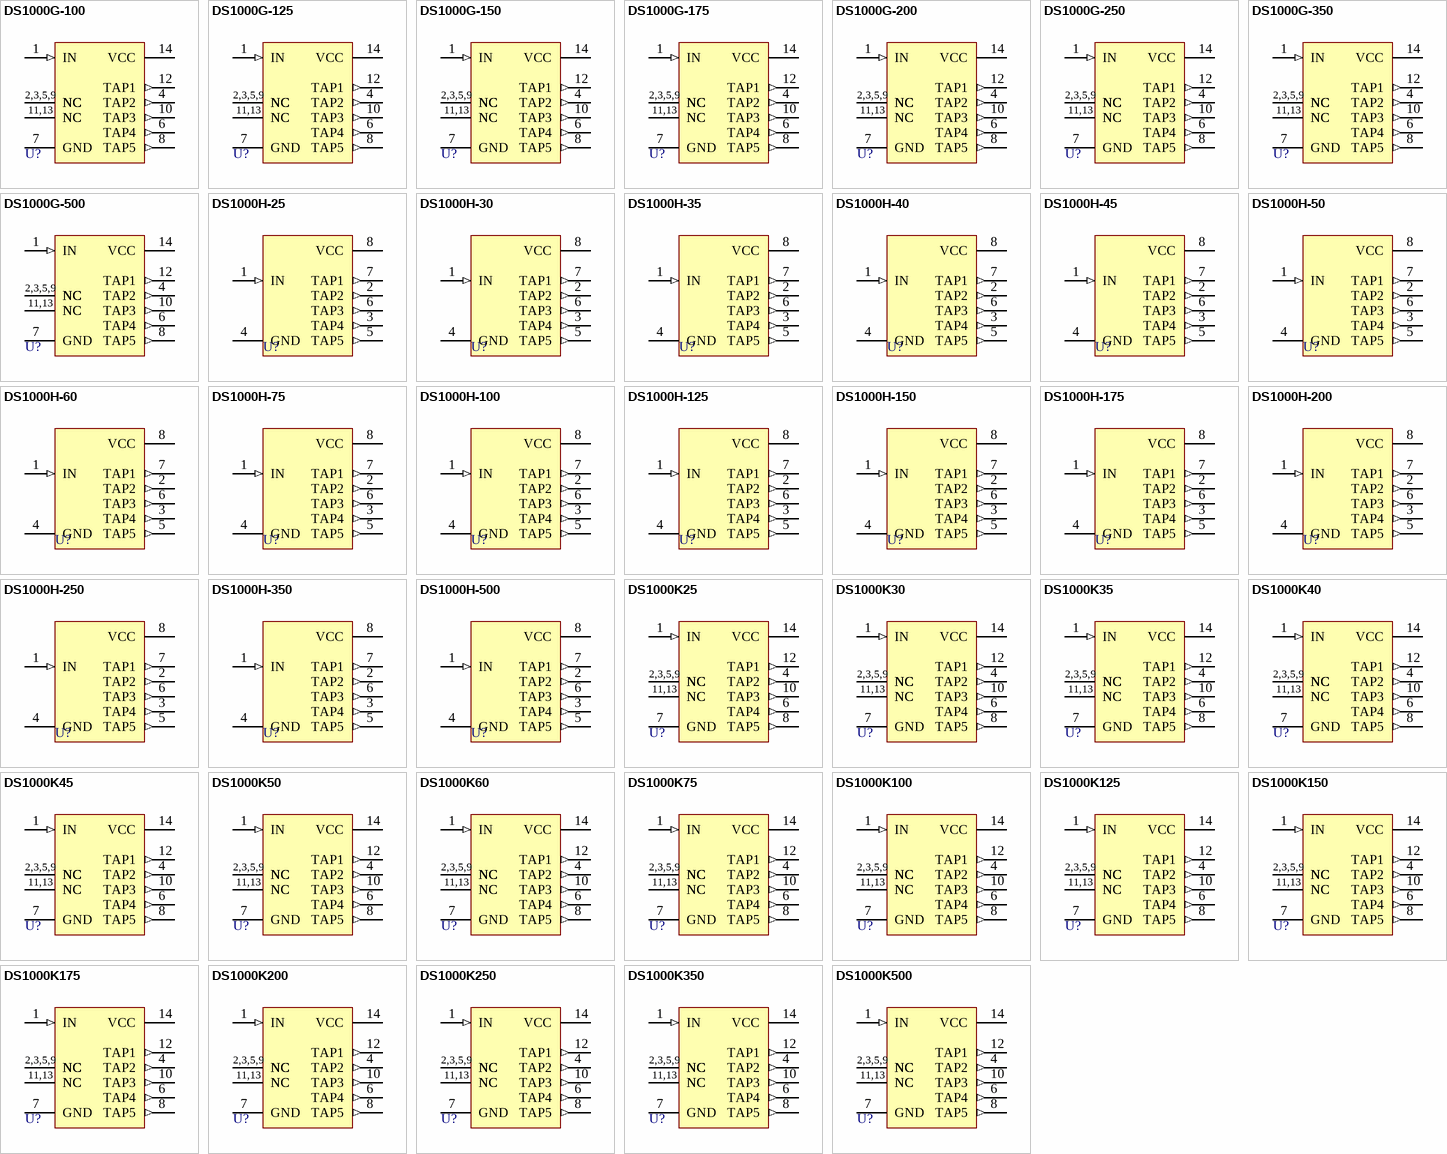
[diagram p1: symbols DS1000G-100 to DS1000K500]

## DS1000G-100
designator U?
5-Tap Silicon Delay Line; Note: Pin numbers 2, 3, 5, 9, 11 and 13 are Not Connected (NC); ComponentAvailability: Obsolete; Published: 13-Oct-2000; LatestRevisionDate: 06-Jun-2005; LatestRevisionNote: Stylized 3D Model Added.; DatasheetDocument: Mar-1994; PackageDocument: Feb-1999; PackageReference: SOG14; Publisher: Altium Limited; ComponentLink1Description: Manufacturer Link; ComponentLink1URL: http://www.maxim-ic.com/
footprint SOG14 (Small Outline; 14 Leads; Body Width 6.4 mm; Pitch 2.54 mm)
3D model SOG14 (Small Outline; 14 Leads; Body Width 6.4 mm; Pitch 2.54 mm)
pins: 1 IN (in), 2 NC, 3 NC, 4 TAP2 (out), 5 NC, 6 TAP4 (out), 7 GND (power), 8 TAP5 (out), 9 NC, 10 TAP3 (out), 11 NC, 12 TAP1 (out), 13 NC, 14 VCC (power)
text: 2,3,5,9; 11,13

## DS1000G-125
designator U?
5-Tap Silicon Delay Line; Note: Pin numbers 2, 3, 5, 9, 11 and 13 are Not Connected (NC); ComponentAvailability: Obsolete; Published: 13-Oct-2000; LatestRevisionDate: 06-Jun-2005; LatestRevisionNote: Stylized 3D Model Added.; DatasheetDocument: Mar-1994; PackageDocument: Feb-1999; PackageReference: SOG14; Publisher: Altium Limited; ComponentLink1Description: Manufacturer Link; ComponentLink1URL: http://www.maxim-ic.com/
footprint SOG14 (Small Outline; 14 Leads; Body Width 6.4 mm; Pitch 2.54 mm)
3D model SOG14 (Small Outline; 14 Leads; Body Width 6.4 mm; Pitch 2.54 mm)
pins: 1 IN (in), 2 NC, 3 NC, 4 TAP2 (out), 5 NC, 6 TAP4 (out), 7 GND (power), 8 TAP5 (out), 9 NC, 10 TAP3 (out), 11 NC, 12 TAP1 (out), 13 NC, 14 VCC (power)
text: 2,3,5,9; 11,13

## DS1000G-150
designator U?
5-Tap Silicon Delay Line; Note: Pin numbers 2, 3, 5, 9, 11 and 13 are Not Connected (NC); ComponentAvailability: Obsolete; Published: 13-Oct-2000; LatestRevisionDate: 06-Jun-2005; LatestRevisionNote: Stylized 3D Model Added.; DatasheetDocument: Mar-1994; PackageDocument: Feb-1999; PackageReference: SOG14; Publisher: Altium Limited; ComponentLink1Description: Manufacturer Link; ComponentLink1URL: http://www.maxim-ic.com/
footprint SOG14 (Small Outline; 14 Leads; Body Width 6.4 mm; Pitch 2.54 mm)
3D model SOG14 (Small Outline; 14 Leads; Body Width 6.4 mm; Pitch 2.54 mm)
pins: 1 IN (in), 2 NC, 3 NC, 4 TAP2 (out), 5 NC, 6 TAP4 (out), 7 GND (power), 8 TAP5 (out), 9 NC, 10 TAP3 (out), 11 NC, 12 TAP1 (out), 13 NC, 14 VCC (power)
text: 2,3,5,9; 11,13

## DS1000G-175
designator U?
5-Tap Silicon Delay Line; Note: Pin numbers 2, 3, 5, 9, 11 and 13 are Not Connected (NC); ComponentAvailability: Obsolete; Published: 13-Oct-2000; LatestRevisionDate: 06-Jun-2005; LatestRevisionNote: Stylized 3D Model Added.; DatasheetDocument: Mar-1994; PackageDocument: Feb-1999; PackageReference: SOG14; Publisher: Altium Limited; ComponentLink1Description: Manufacturer Link; ComponentLink1URL: http://www.maxim-ic.com/
footprint SOG14 (Small Outline; 14 Leads; Body Width 6.4 mm; Pitch 2.54 mm)
3D model SOG14 (Small Outline; 14 Leads; Body Width 6.4 mm; Pitch 2.54 mm)
pins: 1 IN (in), 2 NC, 3 NC, 4 TAP2 (out), 5 NC, 6 TAP4 (out), 7 GND (power), 8 TAP5 (out), 9 NC, 10 TAP3 (out), 11 NC, 12 TAP1 (out), 13 NC, 14 VCC (power)
text: 2,3,5,9; 11,13

## DS1000G-200
designator U?
5-Tap Silicon Delay Line; Note: Pin numbers 2, 3, 5, 9, 11 and 13 are Not Connected (NC); ComponentAvailability: Obsolete; Published: 13-Oct-2000; LatestRevisionDate: 06-Jun-2005; LatestRevisionNote: Stylized 3D Model Added.; DatasheetDocument: Mar-1994; PackageDocument: Feb-1999; PackageReference: SOG14; Publisher: Altium Limited; ComponentLink1Description: Manufacturer Link; ComponentLink1URL: http://www.maxim-ic.com/
footprint SOG14 (Small Outline; 14 Leads; Body Width 6.4 mm; Pitch 2.54 mm)
3D model SOG14 (Small Outline; 14 Leads; Body Width 6.4 mm; Pitch 2.54 mm)
pins: 1 IN (in), 2 NC, 3 NC, 4 TAP2 (out), 5 NC, 6 TAP4 (out), 7 GND (power), 8 TAP5 (out), 9 NC, 10 TAP3 (out), 11 NC, 12 TAP1 (out), 13 NC, 14 VCC (power)
text: 2,3,5,9; 11,13

## DS1000G-250
designator U?
5-Tap Silicon Delay Line; Note: Pin numbers 2, 3, 5, 9, 11 and 13 are Not Connected (NC); ComponentAvailability: Obsolete; Published: 13-Oct-2000; LatestRevisionDate: 06-Jun-2005; LatestRevisionNote: Stylized 3D Model Added.; DatasheetDocument: Mar-1994; PackageDocument: Feb-1999; PackageReference: SOG14; Publisher: Altium Limited; ComponentLink1Description: Manufacturer Link; ComponentLink1URL: http://www.maxim-ic.com/
footprint SOG14 (Small Outline; 14 Leads; Body Width 6.4 mm; Pitch 2.54 mm)
3D model SOG14 (Small Outline; 14 Leads; Body Width 6.4 mm; Pitch 2.54 mm)
pins: 1 IN (in), 2 NC, 3 NC, 4 TAP2 (out), 5 NC, 6 TAP4 (out), 7 GND (power), 8 TAP5 (out), 9 NC, 10 TAP3 (out), 11 NC, 12 TAP1 (out), 13 NC, 14 VCC (power)
text: 2,3,5,9; 11,13

## DS1000G-350
designator U?
5-Tap Silicon Delay Line; Note: Pin numbers 2, 3, 5, 9, 11 and 13 are Not Connected (NC); ComponentAvailability: Obsolete; Published: 13-Oct-2000; LatestRevisionDate: 06-Jun-2005; LatestRevisionNote: Stylized 3D Model Added.; DatasheetDocument: Mar-1994; PackageDocument: Feb-1999; PackageReference: SOG14; Publisher: Altium Limited; ComponentLink1Description: Manufacturer Link; ComponentLink1URL: http://www.maxim-ic.com/
footprint SOG14 (Small Outline; 14 Leads; Body Width 6.4 mm; Pitch 2.54 mm)
3D model SOG14 (Small Outline; 14 Leads; Body Width 6.4 mm; Pitch 2.54 mm)
pins: 1 IN (in), 2 NC, 3 NC, 4 TAP2 (out), 5 NC, 6 TAP4 (out), 7 GND (power), 8 TAP5 (out), 9 NC, 10 TAP3 (out), 11 NC, 12 TAP1 (out), 13 NC, 14 VCC (power)
text: 2,3,5,9; 11,13

## DS1000G-500
designator U?
5-Tap Silicon Delay Line; Note: Pin numbers 2, 3, 5, 9, 11 and 13 are Not Connected (NC); ComponentAvailability: Obsolete; Published: 13-Oct-2000; LatestRevisionDate: 06-Jun-2005; LatestRevisionNote: Stylized 3D Model Added.; DatasheetDocument: Mar-1994; PackageDocument: Feb-1999; PackageReference: SOG14; Publisher: Altium Limited; ComponentLink1Description: Manufacturer Link; ComponentLink1URL: http://www.maxim-ic.com/
footprint SOG14 (Small Outline; 14 Leads; Body Width 6.4 mm; Pitch 2.54 mm)
3D model SOG14 (Small Outline; 14 Leads; Body Width 6.4 mm; Pitch 2.54 mm)
pins: 1 IN (in), 2 NC, 3 NC, 4 TAP2 (out), 5 NC, 6 TAP4 (out), 7 GND (power), 8 TAP5 (out), 9 NC, 10 TAP3 (out), 11 NC, 12 TAP1 (out), 13 NC, 14 VCC (power)
text: 2,3,5,9; 11,13

## DS1000H-25
designator U?
5-Tap Silicon Delay Line; ComponentAvailability: Obsolete; Published: 13-Oct-2000; LatestRevisionDate: 06-Jun-2005; LatestRevisionNote: Stylized 3D Model Added.; DatasheetDocument: Mar-1994; PackageDocument: Feb-1999; PackageReference: SOG8; Publisher: Altium Limited; ComponentLink1Description: Manufacturer Link; ComponentLink1URL: http://www.maxim-ic.com/
footprint SOG8 (Small Outline; 8 Leads; Body Width 6.4 mm; Pitch 2.54 mm)
3D model SOG8 (Small Outline; 8 Leads; Body Width 6.4 mm; Pitch 2.54 mm)
pins: 1 IN (in), 2 TAP2 (out), 3 TAP4 (out), 4 GND (power), 5 TAP5 (out), 6 TAP3 (out), 7 TAP1 (out), 8 VCC (power)

## DS1000H-30
designator U?
5-Tap Silicon Delay Line; ComponentAvailability: Obsolete; Published: 13-Oct-2000; LatestRevisionDate: 06-Jun-2005; LatestRevisionNote: Stylized 3D Model Added.; DatasheetDocument: Mar-1994; PackageDocument: Feb-1999; PackageReference: SOG8; Publisher: Altium Limited; ComponentLink1Description: Manufacturer Link; ComponentLink1URL: http://www.maxim-ic.com/
footprint SOG8 (Small Outline; 8 Leads; Body Width 6.4 mm; Pitch 2.54 mm)
3D model SOG8 (Small Outline; 8 Leads; Body Width 6.4 mm; Pitch 2.54 mm)
pins: 1 IN (in), 2 TAP2 (out), 3 TAP4 (out), 4 GND (power), 5 TAP5 (out), 6 TAP3 (out), 7 TAP1 (out), 8 VCC (power)

## DS1000H-35
designator U?
5-Tap Silicon Delay Line; ComponentAvailability: Obsolete; Published: 13-Oct-2000; LatestRevisionDate: 06-Jun-2005; LatestRevisionNote: Stylized 3D Model Added.; DatasheetDocument: Mar-1994; PackageDocument: Feb-1999; PackageReference: SOG8; Publisher: Altium Limited; ComponentLink1Description: Manufacturer Link; ComponentLink1URL: http://www.maxim-ic.com/
footprint SOG8 (Small Outline; 8 Leads; Body Width 6.4 mm; Pitch 2.54 mm)
3D model SOG8 (Small Outline; 8 Leads; Body Width 6.4 mm; Pitch 2.54 mm)
pins: 1 IN (in), 2 TAP2 (out), 3 TAP4 (out), 4 GND (power), 5 TAP5 (out), 6 TAP3 (out), 7 TAP1 (out), 8 VCC (power)

## DS1000H-40
designator U?
5-Tap Silicon Delay Line; ComponentAvailability: Obsolete; Published: 13-Oct-2000; LatestRevisionDate: 06-Jun-2005; LatestRevisionNote: Stylized 3D Model Added.; DatasheetDocument: Mar-1994; PackageDocument: Feb-1999; PackageReference: SOG8; Publisher: Altium Limited; ComponentLink1Description: Manufacturer Link; ComponentLink1URL: http://www.maxim-ic.com/
footprint SOG8 (Small Outline; 8 Leads; Body Width 6.4 mm; Pitch 2.54 mm)
3D model SOG8 (Small Outline; 8 Leads; Body Width 6.4 mm; Pitch 2.54 mm)
pins: 1 IN (in), 2 TAP2 (out), 3 TAP4 (out), 4 GND (power), 5 TAP5 (out), 6 TAP3 (out), 7 TAP1 (out), 8 VCC (power)

## DS1000H-45
designator U?
5-Tap Silicon Delay Line; ComponentAvailability: Obsolete; Published: 13-Oct-2000; LatestRevisionDate: 06-Jun-2005; LatestRevisionNote: Stylized 3D Model Added.; DatasheetDocument: Mar-1994; PackageDocument: Feb-1999; PackageReference: SOG8; Publisher: Altium Limited; ComponentLink1Description: Manufacturer Link; ComponentLink1URL: http://www.maxim-ic.com/
footprint SOG8 (Small Outline; 8 Leads; Body Width 6.4 mm; Pitch 2.54 mm)
3D model SOG8 (Small Outline; 8 Leads; Body Width 6.4 mm; Pitch 2.54 mm)
pins: 1 IN (in), 2 TAP2 (out), 3 TAP4 (out), 4 GND (power), 5 TAP5 (out), 6 TAP3 (out), 7 TAP1 (out), 8 VCC (power)

## DS1000H-50
designator U?
5-Tap Silicon Delay Line; ComponentAvailability: Obsolete; Published: 13-Oct-2000; LatestRevisionDate: 06-Jun-2005; LatestRevisionNote: Stylized 3D Model Added.; DatasheetDocument: Mar-1994; PackageDocument: Feb-1999; PackageReference: SOG8; Publisher: Altium Limited; ComponentLink1Description: Manufacturer Link; ComponentLink1URL: http://www.maxim-ic.com/
footprint SOG8 (Small Outline; 8 Leads; Body Width 6.4 mm; Pitch 2.54 mm)
3D model SOG8 (Small Outline; 8 Leads; Body Width 6.4 mm; Pitch 2.54 mm)
pins: 1 IN (in), 2 TAP2 (out), 3 TAP4 (out), 4 GND (power), 5 TAP5 (out), 6 TAP3 (out), 7 TAP1 (out), 8 VCC (power)

## DS1000H-60
designator U?
5-Tap Silicon Delay Line; ComponentAvailability: Obsolete; Published: 13-Oct-2000; LatestRevisionDate: 06-Jun-2005; LatestRevisionNote: Stylized 3D Model Added.; DatasheetDocument: Mar-1994; PackageDocument: Feb-1999; PackageReference: SOG8; Publisher: Altium Limited; ComponentLink1Description: Manufacturer Link; ComponentLink1URL: http://www.maxim-ic.com/
footprint SOG8 (Small Outline; 8 Leads; Body Width 6.4 mm; Pitch 2.54 mm)
3D model SOG8 (Small Outline; 8 Leads; Body Width 6.4 mm; Pitch 2.54 mm)
pins: 1 IN (in), 2 TAP2 (out), 3 TAP4 (out), 4 GND (power), 5 TAP5 (out), 6 TAP3 (out), 7 TAP1 (out), 8 VCC (power)

## DS1000H-75
designator U?
5-Tap Silicon Delay Line; ComponentAvailability: Obsolete; Published: 13-Oct-2000; LatestRevisionDate: 06-Jun-2005; LatestRevisionNote: Stylized 3D Model Added.; DatasheetDocument: Mar-1994; PackageDocument: Feb-1999; PackageReference: SOG8; Publisher: Altium Limited; ComponentLink1Description: Manufacturer Link; ComponentLink1URL: http://www.maxim-ic.com/
footprint SOG8 (Small Outline; 8 Leads; Body Width 6.4 mm; Pitch 2.54 mm)
3D model SOG8 (Small Outline; 8 Leads; Body Width 6.4 mm; Pitch 2.54 mm)
pins: 1 IN (in), 2 TAP2 (out), 3 TAP4 (out), 4 GND (power), 5 TAP5 (out), 6 TAP3 (out), 7 TAP1 (out), 8 VCC (power)

## DS1000H-100
designator U?
5-Tap Silicon Delay Line; ComponentAvailability: Obsolete; Published: 13-Oct-2000; LatestRevisionDate: 06-Jun-2005; LatestRevisionNote: Stylized 3D Model Added.; DatasheetDocument: Mar-1994; PackageDocument: Feb-1999; PackageReference: SOG8; Publisher: Altium Limited; ComponentLink1Description: Manufacturer Link; ComponentLink1URL: http://www.maxim-ic.com/
footprint SOG8 (Small Outline; 8 Leads; Body Width 6.4 mm; Pitch 2.54 mm)
3D model SOG8 (Small Outline; 8 Leads; Body Width 6.4 mm; Pitch 2.54 mm)
pins: 1 IN (in), 2 TAP2 (out), 3 TAP4 (out), 4 GND (power), 5 TAP5 (out), 6 TAP3 (out), 7 TAP1 (out), 8 VCC (power)

## DS1000H-125
designator U?
5-Tap Silicon Delay Line; ComponentAvailability: Obsolete; Published: 13-Oct-2000; LatestRevisionDate: 06-Jun-2005; LatestRevisionNote: Stylized 3D Model Added.; DatasheetDocument: Mar-1994; PackageDocument: Feb-1999; PackageReference: SOG8; Publisher: Altium Limited; ComponentLink1Description: Manufacturer Link; ComponentLink1URL: http://www.maxim-ic.com/
footprint SOG8 (Small Outline; 8 Leads; Body Width 6.4 mm; Pitch 2.54 mm)
3D model SOG8 (Small Outline; 8 Leads; Body Width 6.4 mm; Pitch 2.54 mm)
pins: 1 IN (in), 2 TAP2 (out), 3 TAP4 (out), 4 GND (power), 5 TAP5 (out), 6 TAP3 (out), 7 TAP1 (out), 8 VCC (power)

## DS1000H-150
designator U?
5-Tap Silicon Delay Line; ComponentAvailability: Obsolete; Published: 13-Oct-2000; LatestRevisionDate: 06-Jun-2005; LatestRevisionNote: Stylized 3D Model Added.; DatasheetDocument: Mar-1994; PackageDocument: Feb-1999; PackageReference: SOG8; Publisher: Altium Limited; ComponentLink1Description: Manufacturer Link; ComponentLink1URL: http://www.maxim-ic.com/
footprint SOG8 (Small Outline; 8 Leads; Body Width 6.4 mm; Pitch 2.54 mm)
3D model SOG8 (Small Outline; 8 Leads; Body Width 6.4 mm; Pitch 2.54 mm)
pins: 1 IN (in), 2 TAP2 (out), 3 TAP4 (out), 4 GND (power), 5 TAP5 (out), 6 TAP3 (out), 7 TAP1 (out), 8 VCC (power)

## DS1000H-175
designator U?
5-Tap Silicon Delay Line; ComponentAvailability: Obsolete; Published: 13-Oct-2000; LatestRevisionDate: 06-Jun-2005; LatestRevisionNote: Stylized 3D Model Added.; DatasheetDocument: Mar-1994; PackageDocument: Feb-1999; PackageReference: SOG8; Publisher: Altium Limited; ComponentLink1Description: Manufacturer Link; ComponentLink1URL: http://www.maxim-ic.com/
footprint SOG8 (Small Outline; 8 Leads; Body Width 6.4 mm; Pitch 2.54 mm)
3D model SOG8 (Small Outline; 8 Leads; Body Width 6.4 mm; Pitch 2.54 mm)
pins: 1 IN (in), 2 TAP2 (out), 3 TAP4 (out), 4 GND (power), 5 TAP5 (out), 6 TAP3 (out), 7 TAP1 (out), 8 VCC (power)

## DS1000H-200
designator U?
5-Tap Silicon Delay Line; ComponentAvailability: Obsolete; Published: 13-Oct-2000; LatestRevisionDate: 06-Jun-2005; LatestRevisionNote: Stylized 3D Model Added.; DatasheetDocument: Mar-1994; PackageDocument: Feb-1999; PackageReference: SOG8; Publisher: Altium Limited; ComponentLink1Description: Manufacturer Link; ComponentLink1URL: http://www.maxim-ic.com/
footprint SOG8 (Small Outline; 8 Leads; Body Width 6.4 mm; Pitch 2.54 mm)
3D model SOG8 (Small Outline; 8 Leads; Body Width 6.4 mm; Pitch 2.54 mm)
pins: 1 IN (in), 2 TAP2 (out), 3 TAP4 (out), 4 GND (power), 5 TAP5 (out), 6 TAP3 (out), 7 TAP1 (out), 8 VCC (power)

## DS1000H-250
designator U?
5-Tap Silicon Delay Line; ComponentAvailability: Obsolete; Published: 13-Oct-2000; LatestRevisionDate: 06-Jun-2005; LatestRevisionNote: Stylized 3D Model Added.; DatasheetDocument: Mar-1994; PackageDocument: Feb-1999; PackageReference: SOG8; Publisher: Altium Limited; ComponentLink1Description: Manufacturer Link; ComponentLink1URL: http://www.maxim-ic.com/
footprint SOG8 (Small Outline; 8 Leads; Body Width 6.4 mm; Pitch 2.54 mm)
3D model SOG8 (Small Outline; 8 Leads; Body Width 6.4 mm; Pitch 2.54 mm)
pins: 1 IN (in), 2 TAP2 (out), 3 TAP4 (out), 4 GND (power), 5 TAP5 (out), 6 TAP3 (out), 7 TAP1 (out), 8 VCC (power)

## DS1000H-350
designator U?
5-Tap Silicon Delay Line; ComponentAvailability: Obsolete; Published: 13-Oct-2000; LatestRevisionDate: 06-Jun-2005; LatestRevisionNote: Stylized 3D Model Added.; DatasheetDocument: Mar-1994; PackageDocument: Feb-1999; PackageReference: SOG8; Publisher: Altium Limited; ComponentLink1Description: Manufacturer Link; ComponentLink1URL: http://www.maxim-ic.com/
footprint SOG8 (Small Outline; 8 Leads; Body Width 6.4 mm; Pitch 2.54 mm)
3D model SOG8 (Small Outline; 8 Leads; Body Width 6.4 mm; Pitch 2.54 mm)
pins: 1 IN (in), 2 TAP2 (out), 3 TAP4 (out), 4 GND (power), 5 TAP5 (out), 6 TAP3 (out), 7 TAP1 (out), 8 VCC (power)

## DS1000H-500
designator U?
5-Tap Silicon Delay Line; ComponentAvailability: Obsolete; Published: 13-Oct-2000; LatestRevisionDate: 06-Jun-2005; LatestRevisionNote: Stylized 3D Model Added.; DatasheetDocument: Mar-1994; PackageDocument: Feb-1999; PackageReference: SOG8; Publisher: Altium Limited; ComponentLink1Description: Manufacturer Link; ComponentLink1URL: http://www.maxim-ic.com/
footprint SOG8 (Small Outline; 8 Leads; Body Width 6.4 mm; Pitch 2.54 mm)
3D model SOG8 (Small Outline; 8 Leads; Body Width 6.4 mm; Pitch 2.54 mm)
pins: 1 IN (in), 2 TAP2 (out), 3 TAP4 (out), 4 GND (power), 5 TAP5 (out), 6 TAP3 (out), 7 TAP1 (out), 8 VCC (power)

## DS1000K25
designator U?
5-Tap Silicon Delay Line; PackageDocument: 1999; Note: Pin numbers 2, 3, 5, 9, 11 and 13 are Not Connected (NC); ComponentAvailability: Obsolete; Published: 13-Oct-2000; LatestRevisionDate: 06-Jun-2005; LatestRevisionNote: Stylized 3D Model Added.; DatasheetDocument: Mar-1994; PackageReference: DIP14; Publisher: Altium Limited; ComponentLink1Description: Manufacturer Link; ComponentLink1URL: http://www.maxim-ic.com/
footprint DIP14 (DIP; 14 Leads; Row Spacing 7.62 mm; Pitch 2.54 mm)
3D model DIP14 (DIP; 14 Leads; Row Spacing 7.62 mm; Pitch 2.54 mm)
pins: 1 IN (in), 2 NC, 3 NC, 4 TAP2 (out), 5 NC, 6 TAP4 (out), 7 GND (power), 8 TAP5 (out), 9 NC, 10 TAP3 (out), 11 NC, 12 TAP1 (out), 13 NC, 14 VCC (power)
text: 2,3,5,9; 11,13

## DS1000K30
designator U?
5-Tap Silicon Delay Line; PackageDocument: 1999; Note: Pin numbers 2, 3, 5, 9, 11 and 13 are Not Connected (NC); ComponentAvailability: Obsolete; Published: 13-Oct-2000; LatestRevisionDate: 06-Jun-2005; LatestRevisionNote: Stylized 3D Model Added.; DatasheetDocument: Mar-1994; PackageReference: DIP14; Publisher: Altium Limited; ComponentLink1Description: Manufacturer Link; ComponentLink1URL: http://www.maxim-ic.com/
footprint DIP14 (DIP; 14 Leads; Row Spacing 7.62 mm; Pitch 2.54 mm)
3D model DIP14 (DIP; 14 Leads; Row Spacing 7.62 mm; Pitch 2.54 mm)
pins: 1 IN (in), 2 NC, 3 NC, 4 TAP2 (out), 5 NC, 6 TAP4 (out), 7 GND (power), 8 TAP5 (out), 9 NC, 10 TAP3 (out), 11 NC, 12 TAP1 (out), 13 NC, 14 VCC (power)
text: 2,3,5,9; 11,13

## DS1000K35
designator U?
5-Tap Silicon Delay Line; PackageDocument: 1999; Note: Pin numbers 2, 3, 5, 9, 11 and 13 are Not Connected (NC); ComponentAvailability: Obsolete; Published: 13-Oct-2000; LatestRevisionDate: 06-Jun-2005; LatestRevisionNote: Stylized 3D Model Added.; DatasheetDocument: Mar-1994; PackageReference: DIP14; Publisher: Altium Limited; ComponentLink1Description: Manufacturer Link; ComponentLink1URL: http://www.maxim-ic.com/
footprint DIP14 (DIP; 14 Leads; Row Spacing 7.62 mm; Pitch 2.54 mm)
3D model DIP14 (DIP; 14 Leads; Row Spacing 7.62 mm; Pitch 2.54 mm)
pins: 1 IN (in), 2 NC, 3 NC, 4 TAP2 (out), 5 NC, 6 TAP4 (out), 7 GND (power), 8 TAP5 (out), 9 NC, 10 TAP3 (out), 11 NC, 12 TAP1 (out), 13 NC, 14 VCC (power)
text: 2,3,5,9; 11,13

## DS1000K40
designator U?
5-Tap Silicon Delay Line; PackageDocument: 1999; Note: Pin numbers 2, 3, 5, 9, 11 and 13 are Not Connected (NC); ComponentAvailability: Obsolete; Published: 13-Oct-2000; LatestRevisionDate: 06-Jun-2005; LatestRevisionNote: Stylized 3D Model Added.; DatasheetDocument: Mar-1994; PackageReference: DIP14; Publisher: Altium Limited; ComponentLink1Description: Manufacturer Link; ComponentLink1URL: http://www.maxim-ic.com/
footprint DIP14 (DIP; 14 Leads; Row Spacing 7.62 mm; Pitch 2.54 mm)
3D model DIP14 (DIP; 14 Leads; Row Spacing 7.62 mm; Pitch 2.54 mm)
pins: 1 IN (in), 2 NC, 3 NC, 4 TAP2 (out), 5 NC, 6 TAP4 (out), 7 GND (power), 8 TAP5 (out), 9 NC, 10 TAP3 (out), 11 NC, 12 TAP1 (out), 13 NC, 14 VCC (power)
text: 2,3,5,9; 11,13